# Altium footprint library PcbLib2.PcbLib: 10 footprints
Each footprint in its own frame and in the unit in brackets; x right, y up, seen from the top. Pads: shape width x height; smd on the part's side, far side on the other; paste and mask are expansions set on the pad; w line width, h text height; cw(c..) or ccw(c..) is an arc to the next point about the centre after c.
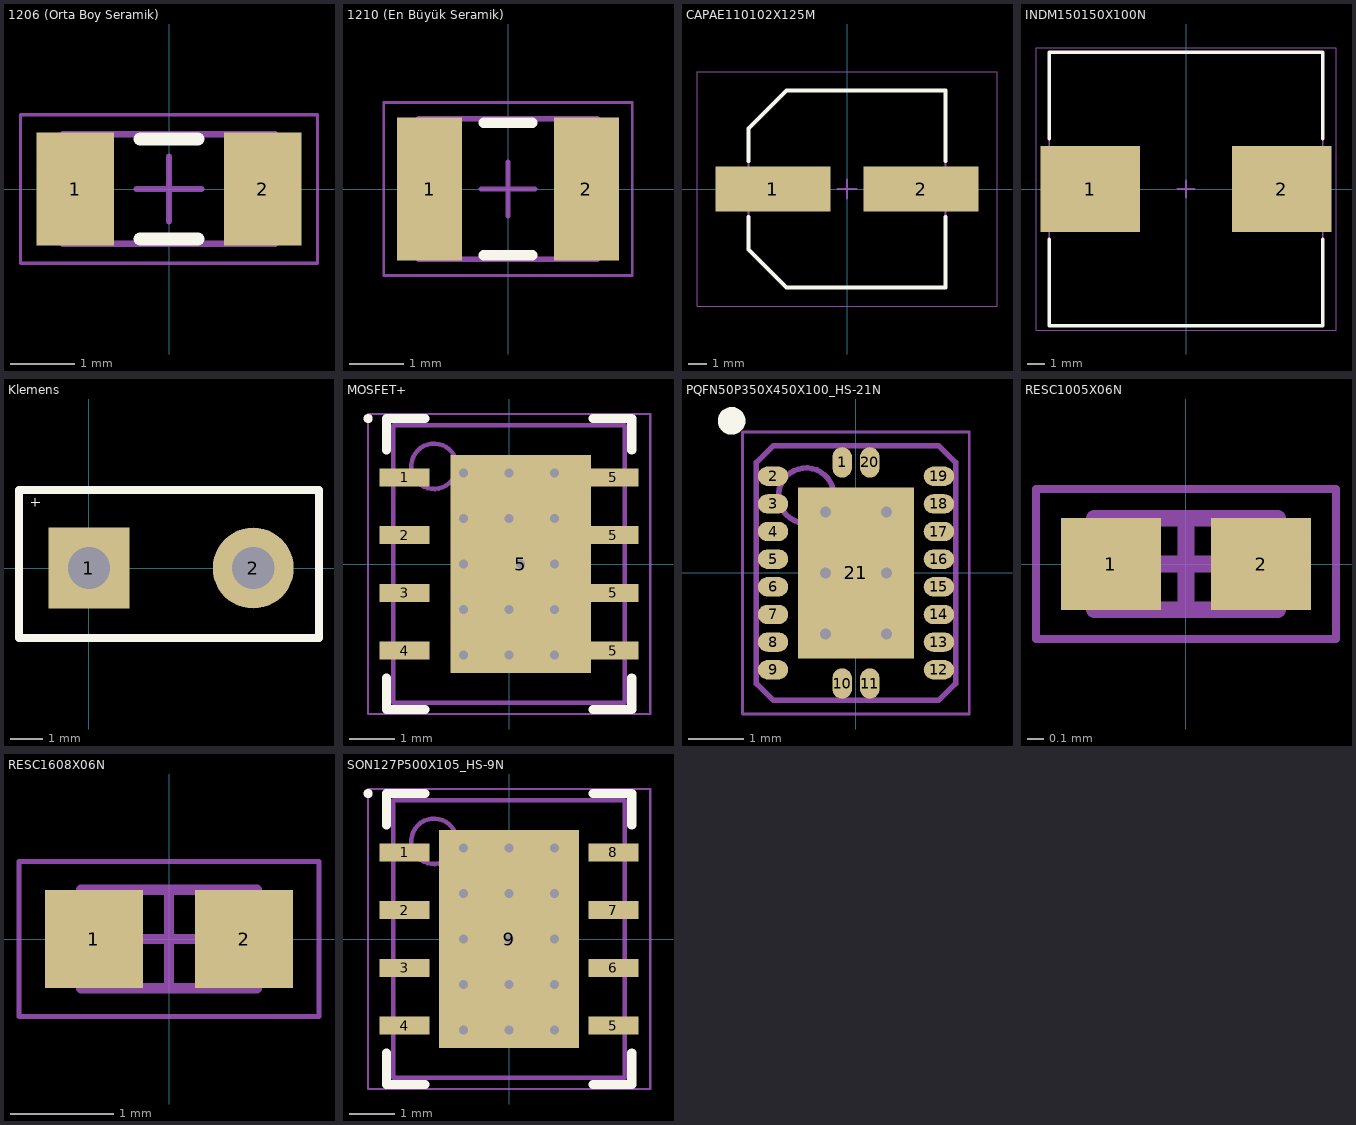
[diagram p0: the footprints below, top view; thin cyan lines are the x and y axes]

## 1206 (Orta Boy Seramik) [mm] "Chip Capacitor, 2-Leads, Body 3,20x1,60mm, IPC Medium Density"
height 1.6
pads (2):
  rect 1.2x1.75 smd: 1(-1.45,0) 2(1.45,0)
Top Overlay:
  lines w0.2: -0.45,-0.775 0.45,-0.775 ; -0.45,0.775 0.45,0.775
Mechanical 13:
  lines w0.1: -1.65,-0.85 -1.65,0.85 1.65,0.85 1.65,-0.85 -1.65,-0.85
Mechanical 15:
  lines w0.05: -2.3,-1.15 -2.3,1.15 2.3,1.15 2.3,-1.15 -2.3,-1.15
  lines w0.1: -0.5,0 0.5,0 ; 0,-0.5 0,0.5
3D body: height 1.6, standoff 0, extent -1.15,-0.85 1.15,0.85
3D body: height 1.6, standoff 0, extent -1.65,-0.85 -1.15,0.85
3D body: height 1.6, standoff 0, extent 1.15,-0.85 1.65,0.85

## 1210 (En Büyük Seramik) [mm] "Chip Capacitor, 2-Leads, Body 3,20x2,50mm, IPC Medium Density"
height 2.8
pads (2):
  rect 1.2x2.65 smd: 1(-1.45,0) 2(1.45,0)
Top Overlay:
  lines w0.2: -0.45,-1.225 0.45,-1.225 ; -0.45,1.225 0.45,1.225
Mechanical 13:
  lines w0.1: -1.65,-1.3 1.65,-1.3 1.65,1.3 -1.65,1.3 -1.65,-1.3
Mechanical 15:
  lines w0.05: -2.3,-1.6 2.3,-1.6 2.3,1.6 -2.3,1.6 -2.3,-1.6
  lines w0.1: -0.5,0 0.5,0 ; 0,-0.5 0,0.5
3D body: height 2.8, standoff 0, extent 1.15,-1.3 1.65,1.3
3D body: height 2.8, standoff 0, extent -1.65,-1.3 -1.15,1.3
3D body: height 2.8, standoff 0, extent -1.15,-1.3 1.15,1.3

## CAPAE110102X125M [mm] "Aluminum Electrolytic Capacitor, Body 10,25x10,25x12,50mm, IPC Low Density"
height 12.5
pads (2):
  rect 6.15x2.4 smd: 1(-3.95,0) 2(3.95,0)
Top Overlay:
  lines w0.2: -5.25,-1.5 -5.25,-3.225 -3.225,-5.25 5.25,-5.25 5.25,-1.5 ; -5.25,1.5 -5.25,3.225 -3.225,5.25 5.25,5.25 5.25,1.5
Mechanical 13:
  lines w0.1: -5.25,-3.225 -5.25,3.225 -3.225,5.25 5.25,5.25 5.25,-5.25 -3.225,-5.25 -5.25,-3.225
Mechanical 15:
  lines w0.05: -8,-6.25 8,-6.25 8,6.25 -8,6.25 -8,-6.25
  lines w0.1: -0.5,0 0.5,0 ; 0,-0.5 0,0.5
3D body: height 12.5, standoff 0, extent -5.25,-5.25 5.25,5.25
3D body: height 4.17, standoff 0, extent -5.25,-5.25 5.25,5.25

## INDM150150X100N [mm] "Molded Inductor, 2-Leads, Body 15,00x15,00mm, IPC Medium Density"
height 10
pads (2):
  rect 5.65x4.9 smd: 1(-5.425,0) 2(5.425,0)
Top Overlay:
  lines w0.2: -7.75,-2.85 -7.75,-7.75 7.75,-7.75 7.75,-2.85 ; -7.75,2.85 -7.75,7.75 7.75,7.75 7.75,2.85
Mechanical 13:
  lines w0.1: -7.75,-7.75 7.75,-7.75 7.75,7.75 -7.75,7.75 -7.75,-7.75
Mechanical 15:
  lines w0.05: -8.5,-8 8.5,-8 8.5,8 -8.5,8 -8.5,-8
  lines w0.1: -0.5,0 0.5,0 ; 0,-0.5 0,0.5
3D body: height 10, standoff 0, extent -7.75,-7.75 7.75,7.75

## Klemens [mm]
pads (2):
  rect 2.5x2.5 hole 1.3: 1(0,0)
  round 2.5 hole 1.3: 2(5.08,0)
Top Overlay:
  lines w0.01: -1.778,2.032 -1.524,2.032 -1.651,2.032 ; -1.651,1.905 -1.651,2.159
  lines w0.254: -2.159,-2.159 7.112,-2.159 7.112,-1.27 7.112,2.413 -2.159,2.413 -2.159,-2.159

## MOSFET+ [mm] "SON, 8-Leads, Body 6,00x5,00mm, Pitch 1,27mm, Thermal Pad 4,80x3,09mm, IPC Medium Density"
height 1.05
pads (9):
  rect 1.1x0.4 smd: 1(-2.295,1.905) 2(-2.295,0.635) 3(-2.295,-0.635) 4(-2.295,-1.905) 5(2.295,-1.905) 5(2.295,-0.635) 5(2.295,0.635) 5(2.295,1.905)
  rect 3.09x4.8 smd paste-1.545: 5(0.254,0)
via -1,2 diameter 0.5 hole 0.2
via 0,2 diameter 0.5 hole 0.2
via 1,2 diameter 0.5 hole 0.2
via -1,1 diameter 0.5 hole 0.2
via 0,1 diameter 0.5 hole 0.2
via 1,1 diameter 0.5 hole 0.2
via -1,0 diameter 0.5 hole 0.2
via 0.254,0 diameter 0.5 hole 0.2
via 1,0 diameter 0.5 hole 0.2
via -1,-1 diameter 0.5 hole 0.2
via 0,-1 diameter 0.5 hole 0.2
via 1,-1 diameter 0.5 hole 0.2
via -1,-2 diameter 0.5 hole 0.2
via 0,-2 diameter 0.5 hole 0.2
via 1,-2 diameter 0.5 hole 0.2
Top Overlay:
  circle w0.1: c-3.1,3.2 r0.05
  lines w0.2: -2.7,-2.505 -2.7,-3.2 -1.845,-3.2 ; -2.7,2.505 -2.7,3.2 -1.845,3.2 ; 1.845,-3.2 2.7,-3.2 2.7,-2.505 ; 1.845,3.2 2.7,3.2 2.7,2.505
Top Paste:
  rectangle: -1.45,1.3 -0.1,2.3
  rectangle: -1.45,0.1 -0.1,1.1
  rectangle: -1.45,-1.1 -0.1,-0.1
  rectangle: -1.45,-2.3 -0.1,-1.3
  rectangle: 0.1,1.3 1.45,2.3
  rectangle: 0.1,0.1 1.45,1.1
  rectangle: 0.1,-1.1 1.45,-0.1
  rectangle: 0.1,-2.3 1.45,-1.3
Mechanical 13:
  circle w0.1: c-1.65,2.15 r0.5
  lines w0.1: -2.55,-3.05 -2.55,3.05 2.55,3.05 2.55,-3.05 -2.55,-3.05
Mechanical 15:
  lines w0.05: -3.105,-3.3 -3.105,3.3 3.105,3.3 3.105,-3.3 -3.105,-3.3
  lines w0.1: -0.5,0 0.5,0 ; 0,-0.5 0,0.5
3D body: height 1.05, standoff 0.05, extent -2.55,-3.05 2.55,3.05

## PQFN50P350X450X100_HS-21N [mm] "PQFN, 20-Leads, Body 3,50x4,50mm, Pitch 0,50mm, Thermal Pad 2,10x3,10mm, IPC Medium Density"
height 1
pads (21):
  oval 0.35x0.55 smd: 1(-0.25,2) 10(-0.25,-2) 11(0.25,-2) 20(0.25,2)
  oval 0.55x0.35 smd: 2(-1.5,1.75) 3(-1.5,1.25) 4(-1.5,0.75) 5(-1.5,0.25) 6(-1.5,-0.25) 7(-1.5,-0.75) 8(-1.5,-1.25) 9(-1.5,-1.75) 12(1.5,-1.75) 13(1.5,-1.25) 14(1.5,-0.75) 15(1.5,-0.25) 16(1.5,0.25) 17(1.5,0.75) 18(1.5,1.25) 19(1.5,1.75)
  rect 2.1x3.1 smd: 21(0,0)
via -0.55,1.1 diameter 0.5 hole 0.2
via 0.55,1.1 diameter 0.5 hole 0.2
via -0.55,0 diameter 0.5 hole 0.2
via 0.55,0 diameter 0.5 hole 0.2
via -0.55,-1.1 diameter 0.5 hole 0.2
via 0.55,-1.1 diameter 0.5 hole 0.2
Top Overlay:
  circle w0.25: c-2.25,2.75 r0.125
Mechanical 13:
  circle w0.1: c-0.9,1.4 r0.5
  lines w0.1: -1.8,-2 -1.5,-2.3 1.5,-2.3 1.8,-2 1.8,2 1.5,2.3 -1.5,2.3 -1.8,2 -1.8,-2
Mechanical 15:
  lines w0.05: -2.05,-2.55 -2.05,2.55 2.05,2.55 2.05,-2.55 -2.05,-2.55
  lines w0.1: -0.5,0 0.5,0 ; 0,-0.5 0,0.5
3D body: height 1, standoff 0, extent -1.8,-2.3 1.8,2.3

## RESC1005X06N [mm] "Chip Resistor, 2-Leads, Body 1,00x0,50mm, IPC Medium Density"
height 0.55
pads (2):
  rect 0.6x0.55 smd: 1(-0.45,0) 2(0.45,0)
Mechanical 13:
  lines w0.1: -0.55,-0.275 0.55,-0.275 0.55,0.275 -0.55,0.275 -0.55,-0.275
Mechanical 15:
  lines w0.05: -0.9,-0.45 0.9,-0.45 0.9,0.45 -0.9,0.45 -0.9,-0.45
  lines w0.1: -0.275,0 0.275,0 ; 0,-0.275 0,0.275
3D body: height 0.55, standoff 0, extent 0.3,-0.275 0.55,0.275
3D body: height 0.55, standoff 0, extent -0.55,-0.275 -0.3,0.275
3D body: height 0.55, standoff 0, extent -0.3,-0.275 0.3,0.275

## RESC1608X06N [mm] "Chip Resistor, 2-Leads, Body 1,60x0,85mm, IPC Medium Density"
height 0.6
pads (2):
  rect 0.95x0.95 smd: 1(-0.725,0) 2(0.725,0)
Mechanical 13:
  lines w0.1: -0.85,-0.475 0.85,-0.475 0.85,0.475 -0.85,0.475 -0.85,-0.475
Mechanical 15:
  lines w0.05: -1.45,-0.75 1.45,-0.75 1.45,0.75 -1.45,0.75 -1.45,-0.75
  lines w0.1: -0.475,0 0.475,0 ; 0,-0.475 0,0.475
3D body: height 0.6, standoff 0, extent 0.45,-0.475 0.85,0.475
3D body: height 0.6, standoff 0, extent -0.85,-0.475 -0.45,0.475
3D body: height 0.6, standoff 0, extent -0.45,-0.475 0.45,0.475

## SON127P500X105_HS-9N [mm] "SON, 8-Leads, Body 6,00x5,00mm, Pitch 1,27mm, Thermal Pad 4,80x3,09mm, IPC Medium Density"
height 1.05
pads (9):
  rect 1.1x0.4 smd: 1(-2.295,1.905) 2(-2.295,0.635) 3(-2.295,-0.635) 4(-2.295,-1.905) 5(2.295,-1.905) 6(2.295,-0.635) 7(2.295,0.635) 8(2.295,1.905)
  rect 3.09x4.8 smd paste-1.545: 9(0,0)
via 1,-2 diameter 0.5 hole 0.2
via 0,-2 diameter 0.5 hole 0.2
via -1,-2 diameter 0.5 hole 0.2
via 1,-1 diameter 0.5 hole 0.2
via 0,-1 diameter 0.5 hole 0.2
via -1,-1 diameter 0.5 hole 0.2
via 1,0 diameter 0.5 hole 0.2
via 0,0 diameter 0.5 hole 0.2
via -1,0 diameter 0.5 hole 0.2
via 1,1 diameter 0.5 hole 0.2
via 0,1 diameter 0.5 hole 0.2
via -1,1 diameter 0.5 hole 0.2
via 1,2 diameter 0.5 hole 0.2
via 0,2 diameter 0.5 hole 0.2
via -1,2 diameter 0.5 hole 0.2
Top Overlay:
  circle w0.1: c-3.1,3.2 r0.05
  lines w0.2: -2.7,-2.505 -2.7,-3.2 -1.845,-3.2 ; -2.7,2.505 -2.7,3.2 -1.845,3.2 ; 1.845,-3.2 2.7,-3.2 2.7,-2.505 ; 1.845,3.2 2.7,3.2 2.7,2.505
Top Paste:
  rectangle: 0.1,-2.3 1.45,-1.3
  rectangle: 0.1,-1.1 1.45,-0.1
  rectangle: 0.1,0.1 1.45,1.1
  rectangle: 0.1,1.3 1.45,2.3
  rectangle: -1.45,-2.3 -0.1,-1.3
  rectangle: -1.45,-1.1 -0.1,-0.1
  rectangle: -1.45,0.1 -0.1,1.1
  rectangle: -1.45,1.3 -0.1,2.3
Mechanical 13:
  circle w0.1: c-1.65,2.15 r0.5
  lines w0.1: -2.55,-3.05 2.55,-3.05 2.55,3.05 -2.55,3.05 -2.55,-3.05
Mechanical 15:
  lines w0.05: -3.105,-3.3 3.105,-3.3 3.105,3.3 -3.105,3.3 -3.105,-3.3
  lines w0.1: -0.5,0 0.5,0 ; 0,-0.5 0,0.5
3D body: height 1.05, standoff 0.05, extent -2.55,-3.05 2.55,3.05